# Altium footprint library mainboard.PcbLib: 70 footprints (part 1 of 5)
Each footprint in its own frame and in the unit in brackets; x right, y up, seen from the top. Pads: shape width x height; smd on the part's side, far side on the other; paste and mask are expansions set on the pad; w line width, h text height; cw(c..) or ccw(c..) is an arc to the next point about the centre after c.
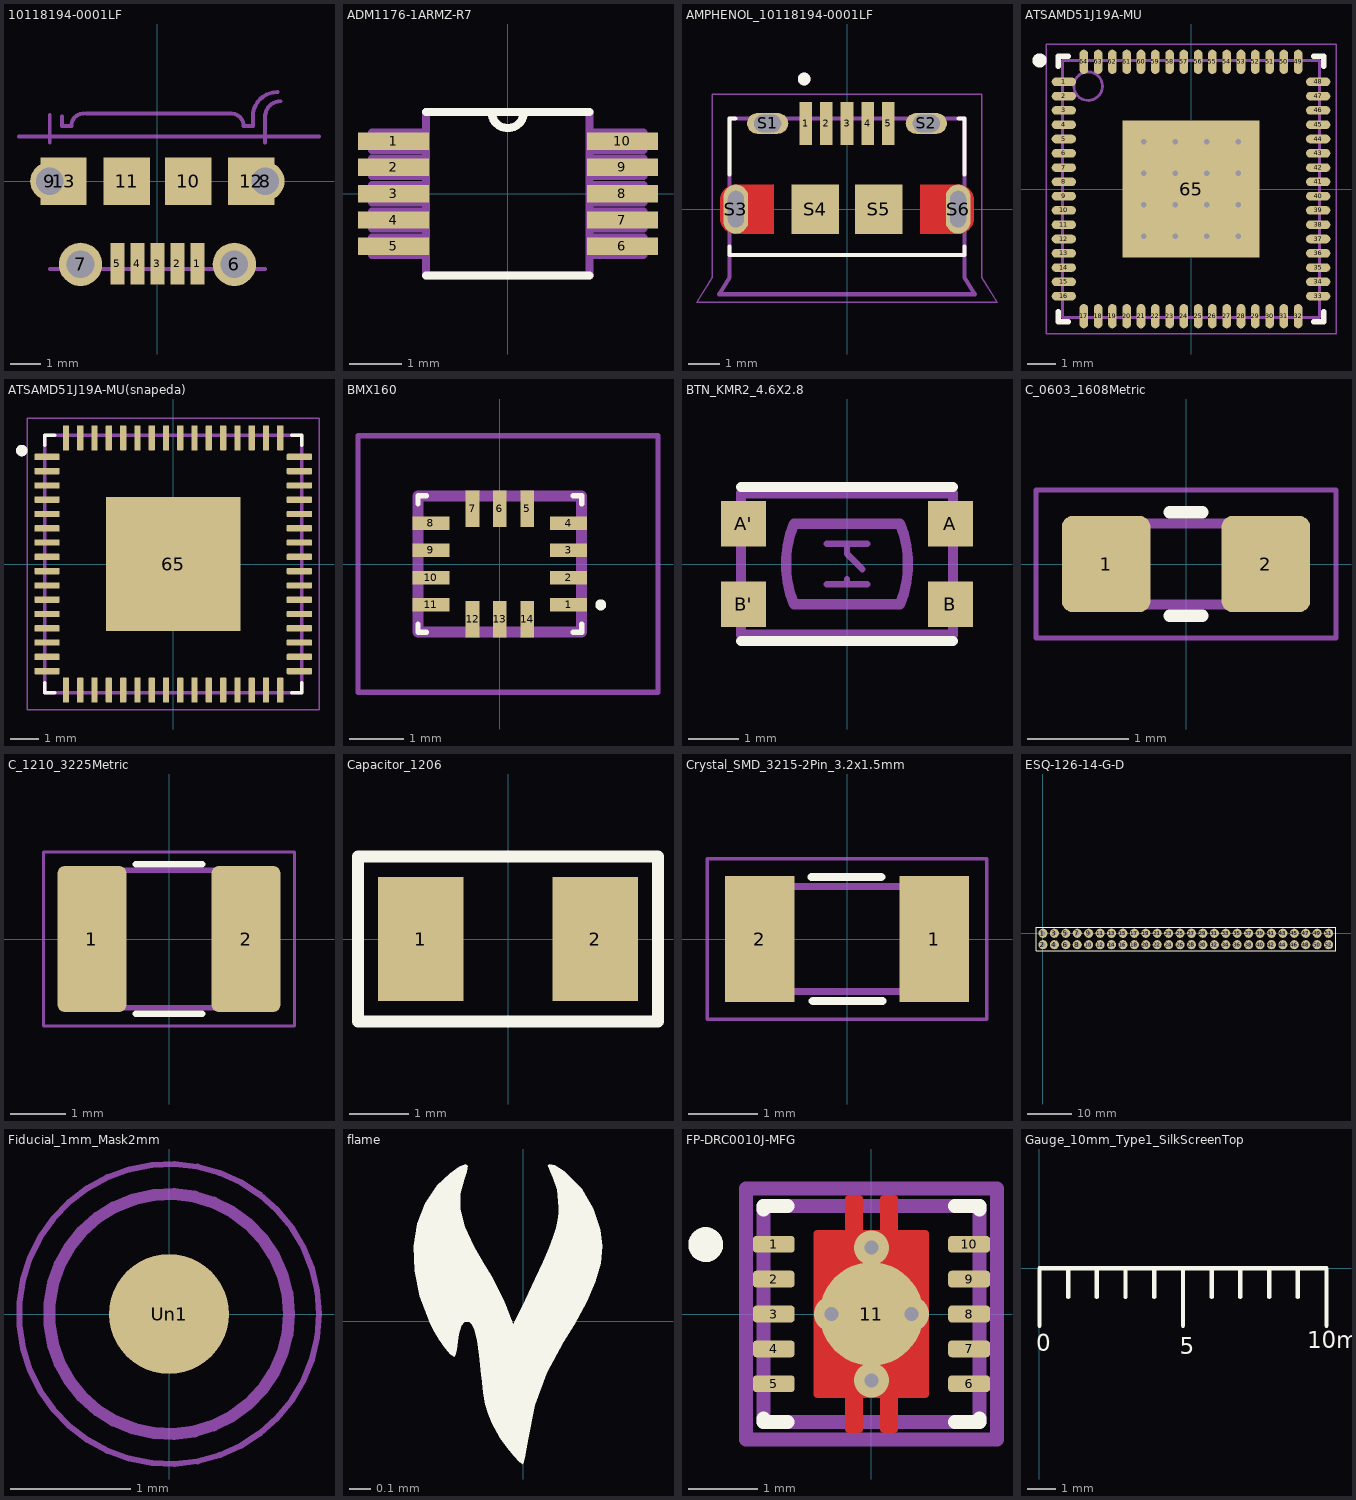
[diagram p0: the footprints below, top view; thin cyan lines are the x and y axes]

## 10118194-0001LF [mm]
pads (13):
  rect 0.45x1.35 smd mask+0.051: 1(1.3,-2.675) 2(0.65,-2.675) 3(0,-2.675) 4(-0.65,-2.675) 5(-1.3,-2.675)
  round 1.408 hole 0.9 paste-1.408 mask+0.051: 6(2.5,-2.7) 7(-2.5,-2.7)
  round 1.27 hole 0.889 paste-1.27 mask+0.051: 8(3.5,0) 9(-3.5,0)
  rect 1.5x1.55 smd mask+0.051: 10(1,0) 11(-1,0) 12(3.05,0) 13(-3.05,0)
Bottom Layer:
  text "PCB~Edge" at -3.009,1.121 h1
Mechanical 2:
  lines w0.127: -3.5,-2.85 3.5,-2.85
Mechanical 5:
  lines w0.127: -4.5,1.45 5.25,1.45 ; -3.5,2.1 -3.5,1.25 -3.5,2.15 ; -3.1,2.1 -3.1,1.8 -2.8,1.8 cw(c-2.4,1.8) -2.4,2.2 ; -2.3,2.2 2.4,2.2 cw(c2.4,1.8) 2.8,1.8 3.1,1.8 3.1,2.1 cw(c3.9,2.1) 3.9,2.9 ; 3.5,1.25 3.5,2.1 ; 3.5,2.15 3.5,2.1 ; 4,2.6 ccw(c4,2.1) 3.5,2.1

## ADM1176-1ARMZ-R7 [mm]
pads (10):
  rect 1.35x0.33 smd mask+0.051: 1(-2.17,1) 2(-2.17,0.5) 3(-2.17,0) 4(-2.17,-0.5) 5(-2.17,-1) 6(2.18,-1) 7(2.18,-0.5) 8(2.18,0) 9(2.18,0.5) 10(2.18,1)
Top Overlay:
  lines w0.152: -1.549,-1.549 1.549,-1.549 ; -1.549,1.549 1.549,1.549 ; -0.305,1.549 ccw(c0,1.549) 0.305,1.549
Mechanical 2:
  lines w0.152: -0.305,1.549 ccw(c0,1.549) 0.305,1.549 ; -2.578,-1.165 -2.578,-0.835 -1.549,-0.835 -1.549,-1.165 -2.578,-1.165 ; -2.578,-0.665 -2.578,-0.335 -1.549,-0.335 -1.549,-0.665 -2.578,-0.665 ; -2.578,-0.165 -2.578,0.165 -1.549,0.165 -1.549,-0.165 -2.578,-0.165 ; -2.578,0.335 -2.578,0.665 -1.549,0.665 -1.549,0.335 -2.578,0.335 ; -2.578,0.835 -2.578,1.165 -1.549,1.165 -1.549,0.835 -2.578,0.835 ; -1.549,-1.549 1.549,-1.549 1.549,1.549 -1.549,1.549 -1.549,-1.549 ; 1.549,-1.165 1.549,-0.835 2.578,-0.835 2.578,-1.165 1.549,-1.165 ; 1.549,-0.665 1.549,-0.335 2.578,-0.335 2.578,-0.665 1.549,-0.665 ; 1.549,-0.165 1.549,0.165 2.578,0.165 2.578,-0.165 1.549,-0.165 ; 1.549,0.335 1.549,0.665 2.578,0.665 2.578,0.335 1.549,0.335 ; 1.549,0.835 1.549,1.165 2.578,1.165 2.578,0.835 1.549,0.835
Mechanical 7:
  text "Copyright 2016 Accelerated Designs. All rights reserved." at 0.861,0.049 h0.13

## AMPHENOL_10118194-0001LF [mm]
pads (11):
  rect 0.4x1.35 smd: 1(-1.3,2.7) 2(-0.65,2.7) 3(0,2.7) 4(0.65,2.7) 5(1.3,2.7)
  oval 1.3x0.65 hole 0.55 slot 0.85 at 0 deg: S1(-2.5,2.7) S2(2.5,2.7)
  oval 0.775x1.55 hole 0.5 slot 1.15 at 90 deg: S3(-3.5,0) S6(3.5,0)
  rect 1.5x1.55 smd: S4(-1,0) S5(1,0)
Top Layer:
  region: 191 vertices and 0 holes, not listed, extent -4,-0.775 -2.3,0.78
  region: 191 vertices and 0 holes, not listed, extent 2.3,-0.78 4,0.775
Top Overlay:
  circle w0.2: c-1.35,4.1 r0.1
  lines w0.127: -3.7,-1.18 -3.7,-1.45 3.7,-1.45 3.7,-1.18 ; -3.7,1.095 -3.7,2.85 -3.52,2.85 ; 3.52,2.85 3.7,2.85 3.7,1.095
Top Paste:
  drawing of 6 lines, arcs and shapes, not listed
Top Solder:
  region: -2.2,-0.875 -3.6,-0.875 -3.626,-0.874 -3.652,-0.872 -3.678,-0.869 -3.704,-0.864 -3.729,-0.858 -3.755,-0.851 -3.779,-0.842 -3.803,-0.832 -3.827,-0.821 -3.85,-0.808 -3.872,-0.794 -3.894,-0.78 -3.915,-0.764 -3.935,-0.747 -3.954,-0.729 -3.972,-0.71 -3.989,-0.69 -4.005,-0.669 -4.019,-0.647 -4.033,-0.625 -4.046,-0.602 -4.057,-0.578 -4.067,-0.554 -4.076,-0.53 -4.083,-0.504 -4.089,-0.479 -4.094,-0.453 -4.097,-0.427 -4.099,-0.401 -4.1,-0.375 -4.1,0.375 -4.099,0.401 -4.097,0.427 -4.094,0.453 -4.089,0.479 -4.083,0.504 -4.076,0.53 -4.067,0.554 -4.057,0.578 -4.046,0.602 -4.033,0.625 -4.019,0.647 -4.005,0.669 -3.989,0.69 -3.972,0.71 -3.954,0.729 -3.935,0.747 -3.915,0.764 -3.894,0.78 -3.872,0.794 -3.85,0.808 -3.827,0.821 -3.803,0.832 -3.779,0.842 -3.755,0.851 -3.729,0.858 -3.704,0.864 -3.678,0.869 -3.652,0.872 -3.626,0.874 -3.6,0.875 -2.2,0.875
  region: 3.626,0.874 3.652,0.872 3.678,0.869 3.704,0.864 3.729,0.858 3.755,0.851 3.779,0.842 3.803,0.832 3.827,0.821 3.85,0.808 3.872,0.794 3.894,0.78 3.915,0.764 3.935,0.747 3.954,0.729 3.972,0.71 3.989,0.69 4.005,0.669 4.019,0.647 4.033,0.625 4.046,0.602 4.057,0.578 4.067,0.554 4.076,0.53 4.083,0.504 4.089,0.479 4.094,0.453 4.097,0.427 4.099,0.401 4.1,0.375 4.1,-0.375 4.099,-0.401 4.097,-0.427 4.094,-0.453 4.089,-0.479 4.083,-0.504 4.076,-0.53 4.067,-0.554 4.057,-0.578 4.046,-0.602 4.033,-0.625 4.019,-0.647 4.005,-0.669 3.989,-0.69 3.972,-0.71 3.954,-0.729 3.935,-0.747 3.915,-0.764 3.894,-0.78 3.872,-0.794 3.85,-0.808 3.827,-0.821 3.803,-0.832 3.779,-0.842 3.755,-0.851 3.729,-0.858 3.704,-0.864 3.678,-0.869 3.652,-0.872 3.626,-0.874 3.6,-0.875 2.2,-0.875 2.2,0.875 3.6,0.875
Mechanical 13:
  circle w0.2: c-1.35,4.1 r0.1
  lines w0.127: -3.7,-1.45 3.7,-1.45 ; -3.7,-1.45 -3.7,2.85 3.7,2.85 3.7,-1.45 ; -3.7,-1.45 -3.7,-2.15 -4.025,-2.68 4.025,-2.68 3.7,-2.15 3.7,-1.45
  text "PCB END" at -1.95,-2.1 h0.5
Mechanical 15:
  lines w0.05: -4.725,-2.93 4.725,-2.93 4.25,-2.15 4.25,3.625 -4.25,3.625 -4.25,-2.15 -4.725,-2.93
3D body "10118194c.stp": height 2.72, standoff -0.55, extent -4.025,-2.659 4.025,2.921

## ATSAMD51J19A-MU [mm] "QFN, 64-Leads, Body 9.00x9.00mm, Pitch 0.50mm, Thermal Pad 4.80x4.80mm, IPC Medium Density"
height 0.8
pads (65):
  oval 0.85x0.3 smd: 1(-4.45,3.75) 2(-4.45,3.25) 3(-4.45,2.75) 4(-4.45,2.25) 5(-4.45,1.75) 6(-4.45,1.25) 7(-4.45,0.75) 8(-4.45,0.25) 9(-4.45,-0.25) 10(-4.45,-0.75) 11(-4.45,-1.25) 12(-4.45,-1.75) 13(-4.45,-2.25) 14(-4.45,-2.75) 15(-4.45,-3.25) 16(-4.45,-3.75) 33(4.45,-3.75) 34(4.45,-3.25) 35(4.45,-2.75) 36(4.45,-2.25) 37(4.45,-1.75) 38(4.45,-1.25) 39(4.45,-0.75) 40(4.45,-0.25) 41(4.45,0.25) 42(4.45,0.75) 43(4.45,1.25) 44(4.45,1.75) 45(4.45,2.25) 46(4.45,2.75) 47(4.45,3.25) 48(4.45,3.75)
  oval 0.3x0.85 smd: 17(-3.75,-4.45) 18(-3.25,-4.45) 19(-2.75,-4.45) 20(-2.25,-4.45) 21(-1.75,-4.45) 22(-1.25,-4.45) 23(-0.75,-4.45) 24(-0.25,-4.45) 25(0.25,-4.45) 26(0.75,-4.45) 27(1.25,-4.45) 28(1.75,-4.45) 29(2.25,-4.45) 30(2.75,-4.45) 31(3.25,-4.45) 32(3.75,-4.45) 49(3.75,4.45) 50(3.25,4.45) 51(2.75,4.45) 52(2.25,4.45) 53(1.75,4.45) 54(1.25,4.45) 55(0.75,4.45) 56(0.25,4.45) 57(-0.25,4.45) 58(-0.75,4.45) 59(-1.25,4.45) 60(-1.75,4.45) 61(-2.25,4.45) 62(-2.75,4.45) 63(-3.25,4.45) 64(-3.75,4.45)
  rect 4.8x4.8 smd: 65(0,0)
via 1.65,-1.65 diameter 0.5 hole 0.2
via 0.55,-1.65 diameter 0.5 hole 0.2
via -0.55,-1.65 diameter 0.5 hole 0.2
via -1.65,-1.65 diameter 0.5 hole 0.2
via 1.65,-0.55 diameter 0.5 hole 0.2
via 0.55,-0.55 diameter 0.5 hole 0.2
via -0.55,-0.55 diameter 0.5 hole 0.2
via -1.65,-0.55 diameter 0.5 hole 0.2
via 1.65,0.55 diameter 0.5 hole 0.2
via 0.55,0.55 diameter 0.5 hole 0.2
via -0.55,0.55 diameter 0.5 hole 0.2
via -1.65,0.55 diameter 0.5 hole 0.2
via 1.65,1.65 diameter 0.5 hole 0.2
via 0.55,1.65 diameter 0.5 hole 0.2
via -0.55,1.65 diameter 0.5 hole 0.2
via -1.65,1.65 diameter 0.5 hole 0.2
Top Overlay:
  circle w0.25: c-5.3,4.5 r0.125
  lines w0.2: -4.65,-4.3 -4.65,-4.65 -4.3,-4.65 ; -4.65,4.3 -4.65,4.65 -4.3,4.65 ; 4.3,-4.65 4.65,-4.65 4.65,-4.3 ; 4.3,4.65 4.65,4.65 4.65,4.3
Mechanical 13:
  circle w0.1: c-3.6,3.6 r0.5
  lines w0.1: -4.5,-4.5 4.5,-4.5 4.5,4.5 -4.5,4.5 -4.5,-4.5
Mechanical 15:
  lines w0.05: -5.075,-5.075 5.075,-5.075 5.075,5.075 -5.075,5.075 -5.075,-5.075
  lines w0.1: -0.5,0 0.5,0 ; 0,-0.5 0,0.5
3D body "ATSAMD51J19A-MU(1).step": height 0.8, standoff 0, extent -4.501,-4.501 4.501,4.501

## ATSAMD51J19A-MU(snapeda) [mm]
pads (65):
  rrect25% 0.88x0.22 smd: 1(-4.415,3.75) 2(-4.415,3.25) 3(-4.415,2.75) 4(-4.415,2.25) 5(-4.415,1.75) 6(-4.415,1.25) 7(-4.415,0.75) 8(-4.415,0.25) 9(-4.415,-0.25) 10(-4.415,-0.75) 11(-4.415,-1.25) 12(-4.415,-1.75) 13(-4.415,-2.25) 14(-4.415,-2.75) 15(-4.415,-3.25) 16(-4.415,-3.75) 33(4.415,-3.75) 34(4.415,-3.25) 35(4.415,-2.75) 36(4.415,-2.25) 37(4.415,-1.75) 38(4.415,-1.25) 39(4.415,-0.75) 40(4.415,-0.25) 41(4.415,0.25) 42(4.415,0.75) 43(4.415,1.25) 44(4.415,1.75) 45(4.415,2.25) 46(4.415,2.75) 47(4.415,3.25) 48(4.415,3.75)
  rrect25% 0.22x0.88 smd: 17(-3.75,-4.415) 18(-3.25,-4.415) 19(-2.75,-4.415) 20(-2.25,-4.415) 21(-1.75,-4.415) 22(-1.25,-4.415) 23(-0.75,-4.415) 24(-0.25,-4.415) 25(0.25,-4.415) 26(0.75,-4.415) 27(1.25,-4.415) 28(1.75,-4.415) 29(2.25,-4.415) 30(2.75,-4.415) 31(3.25,-4.415) 32(3.75,-4.415) 49(3.75,4.415) 50(3.25,4.415) 51(2.75,4.415) 52(2.25,4.415) 53(1.75,4.415) 54(1.25,4.415) 55(0.75,4.415) 56(0.25,4.415) 57(-0.25,4.415) 58(-0.75,4.415) 59(-1.25,4.415) 60(-1.75,4.415) 61(-2.25,4.415) 62(-2.75,4.415) 63(-3.25,4.415) 64(-3.75,4.415)
  rect 4.7x4.7 smd paste-3: 65(0,0)
Top Overlay:
  circle w0.2: c-5.295,3.97 r0.1
  lines w0.127: -4.5,-4.15 -4.5,-4.5 -4.15,-4.5 ; -4.5,4.15 -4.5,4.5 -4.15,4.5 ; 4.15,-4.5 4.5,-4.5 4.5,-4.15 ; 4.15,4.5 4.5,4.5 4.5,4.15
Top Paste:
  region: -0.345,0.346 -2.008,0.346 -2.008,2.005 -0.345,2.005
  region: 2.005,0.345 0.345,0.345 0.345,2.005 2.005,2.005
  region: -0.345,-2.006 -2.006,-2.006 -2.006,-0.345 -0.345,-0.345
  region: 2.005,-2.008 0.346,-2.008 0.346,-0.345 2.005,-0.345
Mechanical 13:
  circle w0.2: c-5.295,3.97 r0.1
  lines w0.127: -4.5,-4.5 4.5,-4.5 4.5,4.5 -4.5,4.5 -4.5,-4.5
Mechanical 15:
  lines w0.05: -5.105,-5.105 5.105,-5.105 5.105,5.105 -5.105,5.105 -5.105,-5.105

## BMX160 [mm]
pads (14):
  rect 0.675x0.25 smd mask+0.051: 1(1.262,-0.75) 2(1.262,-0.25) 3(1.262,0.25) 4(1.262,0.75) 8(-1.262,0.75) 9(-1.262,0.25) 10(-1.262,-0.25) 11(-1.262,-0.75)
  rect 0.25x0.675 smd mask+0.051: 5(0.5,1.012) 6(0,1.012) 7(-0.5,1.012) 12(-0.5,-1.012) 13(0,-1.012) 14(0.5,-1.012)
Top Overlay:
  lines w0.1: -1.5,-1.1 -1.5,-1.25 -1.35,-1.25 ; -1.5,1.1 -1.5,1.25 -1.35,1.25 ; 1.35,-1.25 1.5,-1.25 1.5,-1.1 ; 1.35,1.25 1.5,1.25 1.5,1.1 ; 1.8,-0.75 ccw(c1.85,-0.75) 1.9,-0.75 ccw(c1.85,-0.75) 1.8,-0.75
Mechanical 4:
  lines w0.1: -2.6,-2.35 2.9,-2.35 2.9,2.35 -2.6,2.35 -2.6,-2.35
Mechanical 6:
  lines w0.2: -1.5,-1.25 1.5,-1.25 1.5,1.25 -1.5,1.25 -1.5,-1.25
  text "U3" at 0.389,0.253 h0.89

## BTN_KMR2_4.6X2.8 [mm]
pads (4):
  rect 0.9x0.9 smd mask+0.051: A(2.05,0.8) A'(-2.05,0.8) B(2.05,-0.8) B'(-2.05,-0.8)
Top Overlay:
  lines w0.203: -2.1,-1.525 2.1,-1.525 ; -2.1,1.525 2.1,1.525
Mechanical 6:
  lines w0.127: -0.4,-0.4 0,-0.4 ; -0.4,0.4 0,0.4 ; 0,-0.3 0,-0.4 ; 0.3,-0.1 0,0.2 0,0.4 ; 0.4,-0.4 0,-0.4 ; 0.4,0.4 0,0.4
  lines w0.203: -2.1,-1.4 -2.1,1.4 2.1,1.4 2.1,-1.4 -2.1,-1.4 ; -1.05,-0.8 cw(c0.881,0) -1.05,0.8 1.05,0.8 cw(c-0.881,0) 1.05,-0.8 -1.05,-0.8

## C_0603_1608Metric [mm]
pads (2):
  rrect25% 0.875x0.95 smd mask+0.051: 1(-0.787,0) 2(0.787,0)
Top Overlay:
  lines w0.12: -0.163,-0.51 0.163,-0.51 ; -0.163,0.51 0.163,0.51
Mechanical 4:
  lines w0.05: -1.48,-0.73 1.48,-0.73 1.48,0.73 -1.48,0.73 -1.48,-0.73
Mechanical 6:
  lines w0.1: -0.8,-0.4 0.8,-0.4 0.8,0.4 -0.8,0.4 -0.8,-0.4
  text "C6" at 0.232,0.254 h0.89

## C_1210_3225Metric [mm]
pads (2):
  rrect20% 1.25x2.65 smd mask+0.051: 1(-1.4,0) 2(1.4,0)
Top Overlay:
  lines w0.12: -0.602,-1.36 0.602,-1.36 ; -0.602,1.36 0.602,1.36
Mechanical 4:
  lines w0.05: -2.28,-1.58 -2.28,1.58 2.28,1.58 2.28,-1.58 -2.28,-1.58
Mechanical 6:
  lines w0.1: -1.6,-1.25 -1.6,1.25 1.6,1.25 1.6,-1.25 -1.6,-1.25
  text "C20" at -0.367,-0.254 h0.89

## Capacitor_1206 [mm]
pads (2):
  rect 1.45x2.1 smd: 1(-1.475,0) 2(1.475,0)
Top Overlay:
  lines w0.2: -2.54,-1.397 2.54,-1.397 2.54,1.397 -2.54,1.397 -2.54,-1.11 -2.54,-1.397

## Crystal_SMD_3215-2Pin_3.2x1.5mm [mm]
pads (2):
  rect 1x1.8 smd mask+0.051: 1(1.25,0) 2(-1.25,0)
Top Overlay:
  lines w0.12: -0.508,0.889 0.492,0.889 ; -0.492,-0.889 0.508,-0.889
Mechanical 4:
  lines w0.05: -2,-1.15 2,-1.15 2,1.15 -2,1.15 -2,-1.15
Mechanical 6:
  lines w0.1: -1.6,-0.75 -1.6,0.75 1.6,0.75 1.6,-0.75 -1.6,-0.75
  text "Y1" at 0.197,2.246 h0.89

## ESQ-126-14-G-D [mil]
pads (52):
  round 80 hole 40 mask+1.97: 1(0,0) 2(0,-100) 3(100,0) 4(100,-100) 5(200,0) 6(200,-100) 7(300,0) 8(300,-100) 9(400,0) 10(400,-100) 11(500,0) 12(500,-100) 13(600,0) 14(600,-100) 15(700,0) 16(700,-100) 17(800,0) 18(800,-100) 19(900,0) 20(900,-100) 21(1000,0) 22(1000,-100) 23(1100,0) 24(1100,-100) 25(1200,0) 26(1200,-100) 27(1300,0) 28(1300,-100) 29(1400,0) 30(1400,-100) 31(1500,0) 32(1500,-100) 33(1600,0) 34(1600,-100) 35(1700,0) 36(1700,-100) 37(1800,0) 38(1800,-100) 39(1900,0) 40(1900,-100) 41(2000,0) 42(2000,-100) 43(2100,0) 44(2100,-100) 45(2200,0) 46(2200,-100) 47(2300,0) 48(2300,-100) 49(2400,0) 50(2400,-100) 51(2500,0) 52(2500,-100)
Top Overlay:
  lines w10: -60.98,-155.18 -60.98,54.82 2565,54.82 2565,-155.18 -60.98,-155.18

## Fiducial_1mm_Mask2mm [mm]
pads (1):
  round 1 smd paste-1 mask+0.5: Un1(0,0)
Mechanical 4:
  circle w0.05: c0,0 r1.25
Mechanical 6:
  circle w0.1: c0,0 r1
  text "REF**" at -0.618,-0.249 h0.89

## flame [mm]
Top Overlay:
  region: 0.114,0.719 0.116,0.714 0.125,0.692 0.139,0.659 0.156,0.606 0.165,0.522 0.164,0.497 0.161,0.465 0.153,0.43 0.14,0.389 0.12,0.338 0.092,0.275 0.056,0.195 0.009,0.096 -0.045,-0.017 -0.08,0.072 -0.087,0.089 -0.114,0.147 -0.148,0.21 -0.183,0.269 -0.228,0.346 -0.269,0.436 -0.29,0.516 -0.291,0.589 -0.273,0.656 -0.261,0.69 -0.256,0.717 -0.267,0.724 -0.294,0.713 -0.337,0.683 -0.397,0.627 -0.452,0.545 -0.488,0.45 -0.504,0.345 -0.501,0.233 -0.477,0.115 -0.432,-0.006 -0.415,-0.04 -0.388,-0.087 -0.36,-0.127 -0.336,-0.155 -0.318,-0.165 -0.313,-0.158 -0.307,-0.132 -0.301,-0.093 -0.297,-0.06 -0.286,-0.021 -0.271,-0.003 -0.249,-0.004 -0.236,-0.015 -0.223,-0.043 -0.212,-0.09 -0.202,-0.159 -0.193,-0.25 -0.192,-0.262 -0.184,-0.331 -0.175,-0.384 -0.162,-0.429 -0.143,-0.474 -0.131,-0.496 -0.105,-0.541 -0.074,-0.585 -0.044,-0.623 -0.018,-0.65 -0.001,-0.66 0.002,-0.656 0.008,-0.633 0.015,-0.592 0.023,-0.541 0.054,-0.388 0.109,-0.238 0.185,-0.099 0.236,-0.018 0.294,0.088 0.334,0.182 0.357,0.267 0.365,0.346 0.357,0.421 0.325,0.52 0.27,0.61 0.193,0.689 0.176,0.702 0.146,0.719 0.123,0.725

## FP-DRC0010J-MFG [mm]
pads (11):
  rrect42% 0.6x0.24 smd paste+0 mask+0: 1(-1.4,1) 2(-1.4,0.5) 3(-1.4,0) 4(-1.4,-0.5) 5(-1.4,-1) 6(1.4,-1) 7(1.4,-0.5) 8(1.4,0) 9(1.4,0.5) 10(1.4,1)
  round 1.485 smd paste-1000 mask+0: 11(0,0)
via -0.575,0 diameter 0.5 hole 0.2
via 0.575,0 diameter 0.5 hole 0.2
via 0,0.95 diameter 0.5 hole 0.2
via 0,-0.95 diameter 0.5 hole 0.2
Top Layer:
  region: -0.825,-1.15 -0.825,-1.16 -0.817,-1.178 -0.803,-1.192 -0.785,-1.2 -0.775,-1.2 -0.375,-1.2 -0.375,-1.65 -0.375,-1.66 -0.367,-1.678 -0.353,-1.692 -0.335,-1.7 -0.325,-1.7 -0.175,-1.7 -0.165,-1.7 -0.147,-1.692 -0.133,-1.678 -0.125,-1.66 -0.125,-1.65 -0.125,-1.2 0.125,-1.2 0.125,-1.65 0.125,-1.66 0.133,-1.678 0.147,-1.692 0.165,-1.7 0.175,-1.7 0.325,-1.7 0.335,-1.7 0.353,-1.692 0.367,-1.678 0.375,-1.66 0.375,-1.65 0.375,-1.2 0.775,-1.2 0.785,-1.2 0.803,-1.192 0.817,-1.178 0.825,-1.16 0.825,-1.15 0.825,1.15 0.825,1.16 0.817,1.178 0.803,1.192 0.785,1.2 0.775,1.2 0.375,1.2 0.375,1.65 0.375,1.66 0.367,1.678 0.353,1.692 0.335,1.7 0.325,1.7 0.175,1.7 0.165,1.7 0.147,1.692 0.133,1.678 0.125,1.66 0.125,1.65 0.125,1.2 -0.125,1.2 -0.125,1.65 -0.125,1.66 -0.133,1.678 -0.147,1.692 -0.165,1.7 -0.175,1.7 -0.325,1.7 -0.335,1.7 -0.353,1.692 -0.367,1.678 -0.375,1.66 -0.375,1.65 -0.375,1.2 -0.775,1.2 -0.785,1.2 -0.803,1.192 -0.817,1.178 -0.825,1.16 -0.825,1.15
Top Overlay:
  circle w0.25: c-2.375,0.995 r0.125
  lines w0.2: -1.55,-1.495 -1.55,-1.55 -1.2,-1.55 ; -1.55,1.495 -1.55,1.55 -1.2,1.55 ; 1.2,-1.55 1.55,-1.55 1.55,-1.495 ; 1.2,1.55 1.55,1.55 1.55,1.495
Top Paste:
  drawing of 6 lines, arcs and shapes, not listed
Top 3D Body:
  lines w0.2: -1.55,-1.55 1.55,-1.55 1.55,1.55 -1.55,1.55 -1.55,-1.55
Top Courtyard:
  lines w0.2: -1.8,-1.8 1.8,-1.8 1.8,1.8 -1.8,1.8 -1.8,-1.8
Top Assembly:
  lines w0.2: -1.8,-1.8 1.8,-1.8 1.8,1.8 -1.8,1.8 -1.8,-1.8
  text ".Designator" at 0.435,1.088 h1
Top Component Center:
  lines w0.1: -0.54,0 0.54,0 ; 0,-0.54 0,0.54

## Gauge_10mm_Type1_SilkScreenTop [mm]
Top Overlay:
  lines w0.15: 0,-1.999 0,0 10,0 10,-1.999 ; 1.001,-1.001 1.001,0 ; 1.999,-1.001 1.999,0 ; 3,-1.001 3,0 ; 4,-1.001 4,0 ; 5.001,-1.999 5.001,0 ; 5.999,-1.001 5.999,0 ; 7,-1.001 7,0 ; 8.001,-1.001 8.001,0 ; 8.999,-1.001 8.999,0
  text "5" at 4.892,-3.183 h1
  text "0" at -0.121,-3.084 h1
  text "10mm" at 9.332,-2.985 h1
Mechanical 6:
  text "REF**" at -0.618,2.751 h0.89